# Altium footprint library LH_Pcblib.PcbLib: 31 footprints (part 2 of 2)
Each footprint in its own frame and in the unit in brackets; x right, y up, seen from the top. Pads: shape width x height; smd on the part's side, far side on the other; paste and mask are expansions set on the pad; w line width, h text height; cw(c..) or ccw(c..) is an arc to the next point about the centre after c.
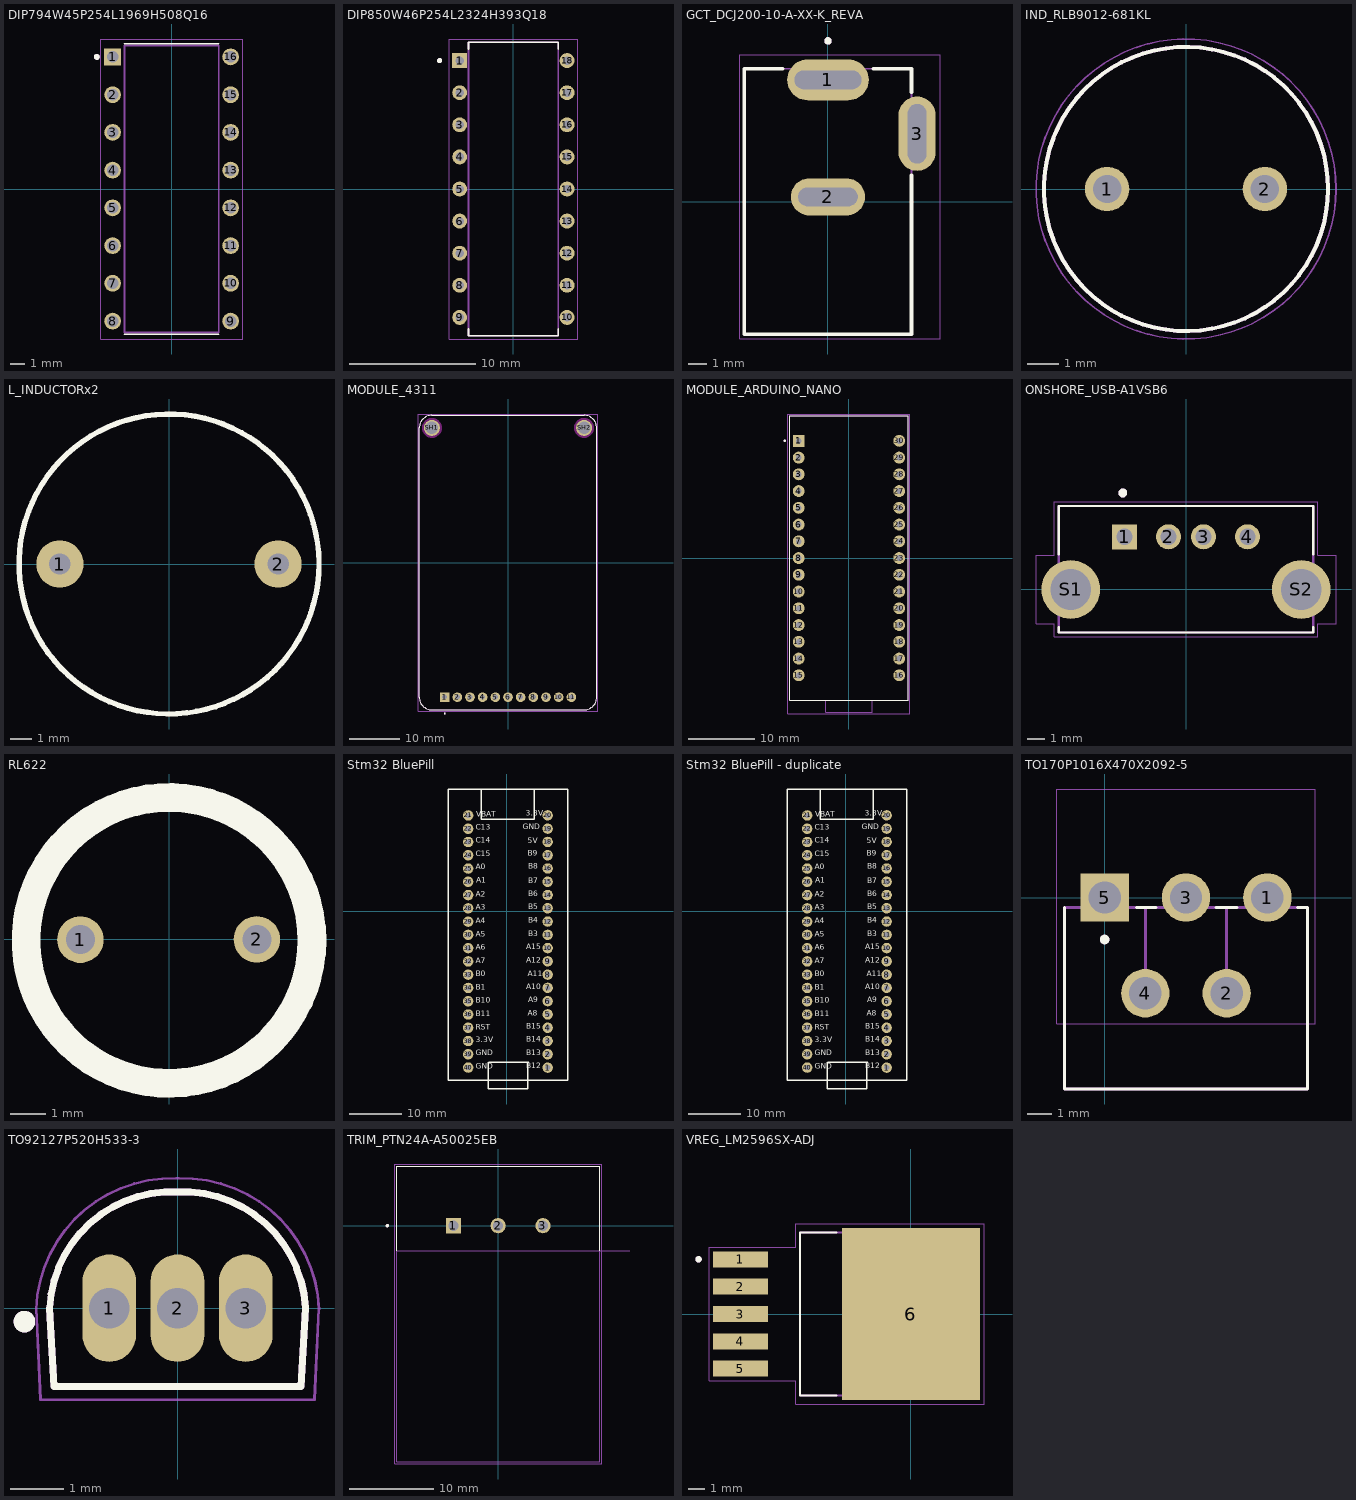
[diagram p1: the footprints below, top view; thin cyan lines are the x and y axes]

## DIP794W45P254L1969H508Q16 [mm]
height 5.08
pads (16):
  rect 1.13x1.13 / inner round 1.13 / far side rect 1.13x1.13 hole 0.78: 1(-3.97,8.89)
  round 1.13 hole 0.78: 2(-3.97,6.35) 3(-3.97,3.81) 4(-3.97,1.27) 5(-3.97,-1.27) 6(-3.97,-3.81) 7(-3.97,-6.35) 8(-3.97,-8.89) 9(3.97,-8.89) 10(3.97,-6.35) 11(3.97,-3.81) 12(3.97,-1.27) 13(3.97,1.27) 14(3.97,3.81) 15(3.97,6.35) 16(3.97,8.89)
Top Overlay:
  circle w0.2: c-5.035,8.89 r0.1
  lines w0.127: -3.175,-9.775 3.175,-9.775 ; -3.175,9.775 3.175,9.775
Mechanical 13:
  circle w0.2: c-5.035,8.89 r0.1
  lines w0.127: -3.175,-9.653 3.175,-9.653 3.175,9.653 -3.175,9.653 -3.175,-9.653
Mechanical 15:
  lines w0.05: -4.785,-10.095 4.785,-10.095 4.785,10.095 -4.785,10.095 -4.785,-10.095
3D body "step_temp.STEP": height 5.08, standoff -3, extent -4.153,-9.653 4.153,9.653

## DIP850W46P254L2324H393Q18 [mm]
height 3.93
pads (18):
  rect 1.178x1.178 / inner round 1.178 / far side rect 1.178x1.178 hole 0.67: 1(-4.25,10.16)
  round 1.178 hole 0.67: 2(-4.25,7.62) 3(-4.25,5.08) 4(-4.25,2.54) 5(-4.25,0) 6(-4.25,-2.54) 7(-4.25,-5.08) 8(-4.25,-7.62) 9(-4.25,-10.16) 10(4.25,-10.16) 11(4.25,-7.62) 12(4.25,-5.08) 13(4.25,-2.54) 14(4.25,0) 15(4.25,2.54) 16(4.25,5.08) 17(4.25,7.62) 18(4.25,10.16)
Top Overlay:
  circle w0.2: c-5.839,10.16 r0.1
  lines w0.127: -3.55,-11.069 -3.55,-11.62 3.55,-11.62 3.55,-11.069 ; -3.55,11.069 -3.55,11.62 3.55,11.62 3.55,11.069
Mechanical 13:
  circle w0.2: c-5.839,10.16 r0.1
  lines w0.127: -3.55,-11.62 3.55,-11.62 3.55,11.62 -3.55,11.62 -3.55,-11.62
Mechanical 15:
  lines w0.05: -5.089,-11.87 -5.089,11.87 5.089,11.87 5.089,-11.87 -5.089,-11.87
3D body "step_temp.STEP": height 3.93, standoff -3.3, extent -4.375,-11.62 4.375,11.62

## GCT_DCJ200-10-A-XX-K_REVA [mm]
height 11
pads (3):
  oval 4.4x2.2 hole 1 slot 3.6 at 0 deg: 1(0,6.55)
  oval 4x2 hole 1 slot 3.2 at 0 deg: 2(0,0.25)
  oval 2x4 hole 1 slot 3.2 at 90 deg: 3(4.8,3.65)
Top Overlay:
  circle w0.2: c0,8.65 r0.1
  lines w0.2: -2.45,7.15 -4.5,7.15 -4.5,-7.15 4.5,-7.15 4.5,1.4 ; 2.45,7.15 4.5,7.15 4.5,5.9
Mechanical 13:
  circle w0.2: c0,8.65 r0.1
  lines w0.1: -4.5,-7.15 4.5,-7.15 4.5,7.15 -4.5,7.15 -4.5,-7.15
Mechanical 15:
  lines w0.05: -4.75,-7.4 -4.75,7.9 6.05,7.9 6.05,-7.4 -4.75,-7.4
3D body "step_temp.STEP": height 11, standoff -3.5, extent -4.5,-7.15 5.05,7.15

## IND_RLB9012-681KL [mm]
height 12.2
pads (2):
  round 1.408 hole 0.9: 1(-2.5,0) 2(2.5,0)
Top Overlay:
  circle w0.127: c0,0 r4.5
Mechanical 13:
  circle w0.127: c0,0 r4.5
Mechanical 15:
  circle w0.05: c0,0 r4.75
3D body "step_temp.STEP": height 12.2, standoff -30, extent -4.5,-4.5 4.5,4.5

## L_INDUCTORx2 [mm]
pads (2):
  round 2.2 hole 1: 1(-5.08,0) 2(5.08,0)
Top Overlay:
  lines w0.254: 6.985,0 cw(c0,0) 6.985,0.061

## MODULE_4311 [mil]
height 921.26
pads (13):
  rect 76x76 / inner round 76 / far side rect 76x76 hole 39.37: 1(-500,-1062.5)
  round 76 hole 39.37: 2(-400,-1062.5) 3(-300,-1062.5) 4(-200,-1062.5) 5(-100,-1062.5) 6(0,-1062.5) 7(100,-1062.5) 8(200,-1062.5) 9(300,-1062.5) 10(400,-1062.5) 11(500,-1062.5)
  round 125.98 hole 98.43: SH1(-600,1062.5) SH2(600,1062.5)
Top Overlay:
  circle w7.87: c-500,-1190.94 r3.94
  lines w5: -700,-1062.5 ccw(c-600,-1062.5) -600,-1162.5 600,-1162.5 ccw(c600,-1062.5) 700,-1062.5 700,1062.5 ccw(c600,1062.5) 600,1162.5 -600,1162.5 ccw(c-600,1062.5) -700,1062.5 -700,-1062.5
Keep-Out Layer:
  circle w78.74: c600,1062.5 r39.37
  circle w78.74: c-600,1062.5 r39.37
  circle w78.74: c600,1062.5 r39.37
  circle w78.74: c-600,1062.5 r39.37
Mechanical 13:
  circle w7.87: c-500,-1190.94 r3.94
  lines w5: -700,-1062.5 ccw(c-600,-1062.5) -600,-1162.5 600,-1162.5 ccw(c600,-1062.5) 700,-1062.5 700,1062.5 ccw(c600,1062.5) 600,1162.5 -600,1162.5 ccw(c-600,1062.5) -700,1062.5 -700,-1062.5
Mechanical 15:
  lines w1.97: -709.84,-1172.34 -709.84,1172.34 709.84,1172.34 709.84,-1172.34 -709.84,-1172.34
3D body: height 10, standoff 0, extent -715,-939.89 695,320

## MODULE_ARDUINO_NANO [mm]
pads (30):
  rect 1.8x1.8 / inner round 1.8 / far side rect 1.8x1.8 hole 0.9: 1(-7.62,17.78)
  round 1.8 hole 0.9: 2(-7.62,15.24) 3(-7.62,12.7) 4(-7.62,10.16) 5(-7.62,7.62) 6(-7.62,5.08) 7(-7.62,2.54) 8(-7.62,0) 9(-7.62,-2.54) 10(-7.62,-5.08) 11(-7.62,-7.62) 12(-7.62,-10.16) 13(-7.62,-12.7) 14(-7.62,-15.24) 15(-7.62,-17.78) 16(7.62,-17.78) 17(7.62,-15.24) 18(7.62,-12.7) 19(7.62,-10.16) 20(7.62,-7.62) 21(7.62,-5.08) 22(7.62,-2.54) 23(7.62,0) 24(7.62,2.54) 25(7.62,5.08) 26(7.62,7.62) 27(7.62,10.16) 28(7.62,12.7) 29(7.62,15.24) 30(7.62,17.78)
Top Overlay:
  circle w0.2: c-9.75,17.78 r0.1
  lines w0.127: -9,-21.6 9,-21.6 9,21.6 -9,21.6 -9,-21.6
Mechanical 13:
  circle w0.2: c-9.75,17.78 r0.1
  lines w0.127: -3.5,-21.6 3.5,-21.6 ; -3.5,-21.6 -9,-21.6 -9,21.6 9,21.6 9,-21.6 3.5,-21.6 ; -3.5,-21.6 -3.5,-23.4 3.5,-23.4 3.5,-21.6
Mechanical 15:
  lines w0.05: -9.25,-23.65 -9.25,21.85 9.25,21.85 9.25,-23.65 -9.25,-23.65
3D body "step_temp.STEP": height 12.6, standoff -6, extent -9,-23.4 9,21.6

## ONSHORE_USB-A1VSB6 [mm]
pads (6):
  rect 1.428x1.428 / inner round 1.428 / far side rect 1.428x1.428 hole 0.92: 1(-3.5,3)
  round 1.428 hole 0.92: 2(-1,3) 3(1,3) 4(3.5,3)
  round 3.346 hole 2.33: S1(-6.57,0) S2(6.57,0)
Top Overlay:
  circle w0.3: c-3.6,5.5 r0.1
  lines w0.127: -7.25,-2.15 -7.25,-2.45 7.25,-2.45 7.25,-2.15 ; -7.25,2 -7.25,4.75 7.25,4.75 7.25,2
Mechanical 13:
  circle w0.3: c-3.6,5.5 r0.1
  lines w0.127: -7.25,-2.45 7.25,-2.45 7.25,4.75 -7.25,4.75 -7.25,-2.45
Mechanical 15:
  lines w0.05: -8.55,-1.95 -7.5,-1.95 -7.5,-2.7 7.5,-2.7 7.5,-1.95 8.55,-1.95 8.55,1.95 7.5,1.95 7.5,5 -7.5,5 -7.5,1.95 -8.55,1.95 -8.55,-1.95
3D body "step_temp.STEP": height 13.7, standoff -4.3, extent -7.843,-4.04 7.843,3.6

## RL622 [mm]
pads (2):
  round 1.32 hole 0.82: 1(-2.51,-0.02) 2(2.49,-0.01)
Top Overlay:
  circle w0.813: c0,-0.04 r4.05
Mechanical 13:
  circle w0.2: c0,0 r4.25

## Stm32 BluePill [mm]
pads (40):
  round 2 hole 1: 1(7.828,-29.909) 2(7.828,-27.343) 3(7.828,-24.803) 4(7.828,-22.263) 5(7.828,-19.723) 6(7.828,-17.183) 7(7.828,-14.643) 8(7.828,-12.103) 9(7.828,-9.563) 10(7.828,-7.023) 11(7.828,-4.483) 12(7.828,-1.943) 13(7.828,0.597) 14(7.828,3.137) 15(7.828,5.677) 16(7.828,8.217) 17(7.828,10.757) 18(7.828,13.297) 19(7.828,15.837) 20(7.828,18.377) 21(-7.386,18.366) 22(-7.386,15.826) 23(-7.386,13.286) 24(-7.386,10.746) 25(-7.386,8.206) 26(-7.386,5.666) 27(-7.386,3.126) 28(-7.386,0.586) 29(-7.386,-1.954) 30(-7.386,-4.494) 31(-7.386,-7.034) 32(-7.386,-9.574) 33(-7.386,-12.114) 34(-7.386,-14.654) 35(-7.386,-17.194) 36(-7.386,-19.734) 37(-7.386,-22.274) 38(-7.386,-24.814) 39(-7.386,-27.354) 40(-7.386,-29.894)
Top Overlay:
  lines w0.254: -11.171,-32.296 11.694,-32.344 ; -11.158,-32.309 -11.222,23.431 11.638,23.431 11.689,-32.309 ; -3.576,-28.918 -3.576,-33.998 4.044,-33.998 4.044,-28.918 ; -3.556,-28.918 -3.556,-33.998 1.778,-33.998 ; -3.449,-28.918 4.171,-28.918 ; -3.429,-28.918 1.905,-28.918 ; 5.288,23.368 5.288,17.653 -4.872,17.653 ; -4.872,17.653 -4.872,23.368 -4.872,17.653
  text "5V" at 3.993,12.694 h1.78
  text "B9" at 3.993,10.281 h1.78
  text "B8" at 4.12,7.741 h1.78
  text "3.3V" at 3.612,17.901 h1.78
  text "GND" at 3.048,15.386 h1.78
  text "A5" at -5.913,-5.213 h1.78
  text "A2" at -5.913,2.438 h1.78
  text "A3" at -5.913,-0.108 h1.78
  text "A4" at -5.913,-2.692 h1.78
  text "RST" at -5.913,-22.993 h1.78
  text "B10" at -5.913,-17.863 h1.78
  text "B11" at -5.913,-20.447 h1.78
  text "A6" at -5.913,-7.703 h1.78
  text "A7" at -5.913,-10.287 h1.78
  text "B0" at -5.913,-12.833 h1.78
  text "B1" at -5.913,-15.392 h1.78
  text "3.3V" at -5.913,-25.457 h1.78
  text "B15" at 3.749,-22.892 h1.78
  text "A8" at 4.056,-20.326 h1.78
  text "A11" at 3.973,-12.751 h1.78
  text "B3" at 4.12,-5.112 h1.78
  text "A9" at 4.087,-17.761 h1.78
  text "A15" at 3.686,-7.601 h1.78
  text "A12" at 3.686,-10.185 h1.78
  text "A10" at 3.686,-15.272 h1.78
  text "VBAT" at -5.84,17.78 h1.78
  text "B5" at 4.12,-0.006 h1.78
  text "B14" at 3.719,-25.375 h1.78
  text "B7" at 4.12,5.029 h1.78
  text "B4" at 4.087,-2.591 h1.78
  text "B6" at 4.15,2.559 h1.78
  text "C15" at -5.913,10.204 h1.78
  text "C13" at -5.913,15.259 h1.78
  text "C14" at -5.913,12.77 h1.78
  text "A0" at -5.913,7.639 h1.78
  text "A1" at -5.842,5.08 h1.78
  text "GND" at -5.913,-27.946 h1.78
  text "B13" at 3.739,-27.946 h1.78
  text "GND" at -5.913,-30.512 h1.78
  text "B12" at 3.749,-30.455 h1.78
3D body "STM32.step": height 12.31, standoff -5.96, extent -11.176,-33.274 11.684,24.286

## Stm32 BluePill - duplicate [mm]
pads (40):
  round 2 hole 1: 1(7.828,-29.909) 2(7.828,-27.343) 3(7.828,-24.803) 4(7.828,-22.263) 5(7.828,-19.723) 6(7.828,-17.183) 7(7.828,-14.643) 8(7.828,-12.103) 9(7.828,-9.563) 10(7.828,-7.023) 11(7.828,-4.483) 12(7.828,-1.943) 13(7.828,0.597) 14(7.828,3.137) 15(7.828,5.677) 16(7.828,8.217) 17(7.828,10.757) 18(7.828,13.297) 19(7.828,15.837) 20(7.828,18.377) 21(-7.386,18.366) 22(-7.386,15.826) 23(-7.386,13.286) 24(-7.386,10.746) 25(-7.386,8.206) 26(-7.386,5.666) 27(-7.386,3.126) 28(-7.386,0.586) 29(-7.386,-1.954) 30(-7.386,-4.494) 31(-7.386,-7.034) 32(-7.386,-9.574) 33(-7.386,-12.114) 34(-7.386,-14.654) 35(-7.386,-17.194) 36(-7.386,-19.734) 37(-7.386,-22.274) 38(-7.386,-24.814) 39(-7.386,-27.354) 40(-7.386,-29.894)
Top Overlay:
  lines w0.254: -11.171,-32.296 11.694,-32.344 ; -11.158,-32.309 -11.222,23.431 11.638,23.431 11.689,-32.309 ; -3.576,-28.918 -3.576,-33.998 4.044,-33.998 4.044,-28.918 ; -3.556,-28.918 -3.556,-33.998 1.778,-33.998 ; -3.449,-28.918 4.171,-28.918 ; -3.429,-28.918 1.905,-28.918 ; 5.288,23.368 5.288,17.653 -4.872,17.653 ; -4.872,17.653 -4.872,23.368 -4.872,17.653
  text "B12" at 3.749,-30.455 h1.78
  text "GND" at -5.913,-30.512 h1.78
  text "B13" at 3.739,-27.946 h1.78
  text "GND" at -5.913,-27.946 h1.78
  text "A1" at -5.842,5.08 h1.78
  text "A0" at -5.913,7.639 h1.78
  text "C14" at -5.913,12.77 h1.78
  text "C13" at -5.913,15.259 h1.78
  text "C15" at -5.913,10.204 h1.78
  text "B6" at 4.15,2.559 h1.78
  text "B4" at 4.087,-2.591 h1.78
  text "B7" at 4.12,5.029 h1.78
  text "B14" at 3.719,-25.375 h1.78
  text "B5" at 4.12,-0.006 h1.78
  text "VBAT" at -5.84,17.78 h1.78
  text "A10" at 3.686,-15.272 h1.78
  text "A12" at 3.686,-10.185 h1.78
  text "A15" at 3.686,-7.601 h1.78
  text "A9" at 4.087,-17.761 h1.78
  text "B3" at 4.12,-5.112 h1.78
  text "A11" at 3.973,-12.751 h1.78
  text "A8" at 4.056,-20.326 h1.78
  text "B15" at 3.749,-22.892 h1.78
  text "3.3V" at -5.913,-25.457 h1.78
  text "B1" at -5.913,-15.392 h1.78
  text "B0" at -5.913,-12.833 h1.78
  text "A7" at -5.913,-10.287 h1.78
  text "A6" at -5.913,-7.703 h1.78
  text "B11" at -5.913,-20.447 h1.78
  text "B10" at -5.913,-17.863 h1.78
  text "RST" at -5.913,-22.993 h1.78
  text "A4" at -5.913,-2.692 h1.78
  text "A3" at -5.913,-0.108 h1.78
  text "A2" at -5.913,2.438 h1.78
  text "A5" at -5.913,-5.213 h1.78
  text "GND" at 3.048,15.386 h1.78
  text "3.3V" at 3.612,17.901 h1.78
  text "B8" at 4.12,7.741 h1.78
  text "B9" at 3.993,10.281 h1.78
  text "5V" at 3.993,12.694 h1.78
3D body "STM32.step": height 12.31, standoff -5.96, extent -11.176,-33.274 11.684,24.286

## TO170P1016X470X2092-5 [mm]
pads (5):
  round 2.025 hole 1.35: 1(6.8,0) 2(5.1,-4) 3(3.4,0) 4(1.7,-4)
  rect 2.025x2.025 / inner round 2.025 / far side rect 2.025x2.025 hole 1.35: 5(0,0)
Top Overlay:
  circle w0.2: c0,-1.755 r0.1
  lines w0.127: -1.68,-0.42 -1.68,-8 8.48,-8 8.48,-0.42 8.06,-0.42 ; 1.329,-0.42 2.14,-0.42 ; 4.66,-0.42 5.54,-0.42
Mechanical 13:
  circle w0.2: c0,-1.755 r0.1
  lines w0.127: 1.7,-2.99 1.7,-0.42 ; 5.1,-2.99 5.1,-0.42 ; 1.7,-0.42 -1.68,-0.42 -1.68,-8 8.48,-8 8.48,-0.42 5.1,-0.42 ; 1.7,-0.42 5.1,-0.42
Mechanical 15:
  lines w0.05: -2,-5.268 8.8,-5.268 8.8,4.533 -2,4.533 -2,-5.268
3D body "step_temp.STEP": height 20.93, standoff -3.78, extent -1.66,-7.735 8.5,0.735

## TO92127P520H533-3 [mm]
height 5.33
pads (3):
  oval 1x2 hole 0.76: 1(-1.27,0) 2(0,0) 3(1.27,0)
Top Overlay:
  circle w0.2: c-2.85,-0.25 r0.1
  lines w0.127: -2.38,0 -2.3,-1.455 2.3,-1.455 2.38,0 ; -2.379,0.012 cw(c-0.108,-0.108) 0.012,2.164 ; -0.012,2.164 cw(c0.108,-0.108) 2.379,0.012
Mechanical 13:
  circle w0.2: c-2.85,-0.25 r0.1
  lines w0.127: -2.38,0 -2.3,-1.455 2.3,-1.455 2.38,0 ; -2.379,0.012 cw(c-0.108,-0.108) 0.012,2.164 ; -0.012,2.164 cw(c0.108,-0.108) 2.379,0.012
Mechanical 15:
  lines w0.05: -2.631,-0.019 cw(c-0.108,-0.108) -0.019,2.416 ; -2.63,0 -2.55,-1.705 2.55,-1.705 2.63,0 ; 0.019,2.416 cw(c0.108,-0.108) 2.631,-0.019
3D body "step_temp.STEP": height 4.6, standoff -12.5, extent -2.74,-1.3 2.74,2.3

## TRIM_PTN24A-A50025EB [mm]
height 30
pads (3):
  rect 1.8x1.8 / inner round 1.8 / far side rect 1.8x1.8 hole 1.2: 1(-5.3,0)
  round 1.8 hole 1.2: 2(0,0) 3(5.3,0)
Top Overlay:
  circle w0.2: c-13.12,0 r0.1
  lines w0.127: -12,-2.95 -12,7.05 12,7.05 12,-2.95
Mechanical 13:
  circle w0.2: c-13.12,0 r0.1
  lines w0.127: 15.55,-2.95 12,-2.95 ; -12,-2.95 -12,7.05 12,7.05 12,-2.95 ; -12,-2.95 -12,-27.95 12,-27.95 12,-2.95 ; -12,-2.95 12,-2.95
  text "PCB EDGE" at 12.4,-2.7 h1.02
Mechanical 15:
  lines w0.05: -12.25,-28.2 12.25,-28.2 12.25,7.3 -12.25,7.3 -12.25,-28.2
3D body "step_temp.STEP": height 12.2, standoff -22, extent -12.177,-27.761 12.177,7.239

## VREG_LM2596SX-ADJ [mm]
pads (6):
  rect 3.4x1 smd paste-0.05 mask+0.07: 1(-10.6,3.4) 2(-10.6,1.7) 3(-10.6,0) 4(-10.6,-1.7) 5(-10.6,-3.4)
  rect 8.6x10.7 smd paste-0.05 mask+0.07: 6(0,0)
Top Overlay:
  circle w0.2: c-13.2,3.4 r0.1
  lines w0.127: -4.62,-5.08 -6.905,-5.08 -6.905,5.08 -4.62,5.08
Mechanical 13:
  circle w0.2: c-13.2,3.4 r0.1
  lines w0.127: -6.905,-5.08 2.02,-5.08 2.02,5.08 -6.905,5.08 -6.905,-5.08
Mechanical 15:
  lines w0.05: -12.55,-4.15 -12.55,4.15 -7.155,4.15 -7.155,5.6 4.55,5.6 4.55,-5.6 -7.155,-5.6 -7.155,-4.15 -12.55,-4.15
3D body "step_temp.STEP": height 4.65, standoff -0.15, extent -11.675,-5.08 2.676,5.08